# Altium footprint library ESE.PcbLib: 2 footprints
Each footprint in its own frame and in the unit in brackets; x right, y up, seen from the top. Pads: shape width x height; smd on the part's side, far side on the other; paste and mask are expansions set on the pad; w line width, h text height; cw(c..) or ccw(c..) is an arc to the next point about the centre after c.
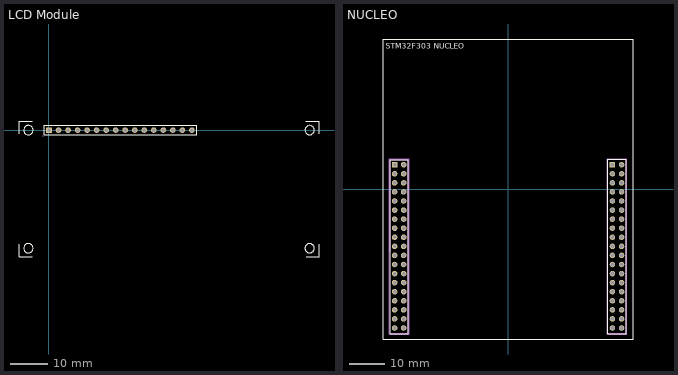
[diagram p0: the footprints below, top view; thin cyan lines are the x and y axes]

## LCD Module [mm] "16 Pin LCD Module w/ header pins, Female Header"
height 20
pads (16):
  rect 1.5x1.5 hole 0.9: 1(0,0)
  round 1.5 hole 0.9: 2(2.54,0) 3(5.08,0) 4(7.62,0) 5(10.16,0) 6(12.7,0) 7(15.24,0) 8(17.78,0) 9(20.32,0) 10(22.86,0) 11(25.4,0) 12(27.94,0) 13(30.48,0) 14(33.02,0) 15(35.56,0) 16(38.1,0)
Top Overlay:
  circle w0.254: c-5.5,0 r1.25
  circle w0.254: c69.5,0 r1.25
  circle w0.254: c69.5,-31.5 r1.25
  circle w0.254: c-5.5,-31.5 r1.25
  lines w0.127: -8,0 -8,2.4
  lines w0.2: -1.27,-1.27 39.37,-1.27 39.37,1.27 0.635,1.27 -1.27,1.27 -1.27,-1.27
  lines w0.254: -8,-30.4 -8,-33.8 -4.5,-33.8 ; -8,-1 -8,2.4 -4.5,2.4 ; 68.5,2.4 72,2.4 72,-1 ; 68.6,-33.8 72,-33.8 72,-30.4
Assembly Top:
  circle w0.254: c-1.6,-1.6 r0.1
3D body "LCD_NHD-0216K1Z-NSB-FBW-L v19.step": height 21.7, standoff -2.68, extent -8,-33.4 72,2.7

## NUCLEO [mm] "Low Cost Board Spacer, 2x19 Pins, Vertical, 2.54mm Pitch, Male"
height 28.245
pads (76):
  rect 1.55x1.55 hole 1.02: 1_1(-31.75,6.8) 1_2(29.25,6.8)
  round 1.55 hole 1.02: 2_1(-29.21,6.8) 2_2(31.79,6.8) 3_1(-31.75,4.26) 3_2(29.25,4.26) 4_1(-29.21,4.26) 4_2(31.79,4.26) 5_1(-31.75,1.72) 5_2(29.25,1.72) 6_1(-29.21,1.72) 6_2(31.79,1.72) 7_1(-31.75,-0.82) 7_2(29.25,-0.82) 8_1(-29.21,-0.82) 8_2(31.79,-0.82) 9_1(-31.75,-3.36) 9_2(29.25,-3.36) 10_1(-29.21,-3.36) 10_2(31.79,-3.36) 11_1(-31.75,-5.9) 11_2(29.25,-5.9) 12_1(-29.21,-5.9) 12_2(31.79,-5.9) 13_1(-31.75,-8.44) 13_2(29.25,-8.44) 14_1(-29.21,-8.44) 14_2(31.79,-8.44) 15_1(-31.75,-10.98) 15_2(29.25,-10.98) 16_1(-29.21,-10.98) 16_2(31.79,-10.98) 17_1(-31.75,-13.52) 17_2(29.25,-13.52) 18_1(-29.21,-13.52) 18_2(31.79,-13.52) 19_1(-31.75,-16.06) 19_2(29.25,-16.06) 20_1(-29.21,-16.06) 20_2(31.79,-16.06) 21_1(-31.75,-18.6) 21_2(29.25,-18.6) 22_1(-29.21,-18.6) 22_2(31.79,-18.6) 23_1(-31.75,-21.14) 23_2(29.25,-21.14) 24_1(-29.21,-21.14) 24_2(31.79,-21.14) 25_1(-31.75,-23.68) 25_2(29.25,-23.68) 26_1(-29.21,-23.68) 26_2(31.79,-23.68) 27_1(-31.75,-26.22) 27_2(29.25,-26.22) 28_1(-29.21,-26.22) 28_2(31.79,-26.22) 29_1(-31.75,-28.76) 29_2(29.25,-28.76) 30_1(-29.21,-28.76) 30_2(31.79,-28.76) 31_1(-31.75,-31.3) 31_2(29.25,-31.3) 32_1(-29.21,-31.3) 32_2(31.79,-31.3) 33_1(-31.75,-33.84) 33_2(29.25,-33.84) 34_1(-29.21,-33.84) 34_2(31.79,-33.84) 35_1(-31.75,-36.38) 35_2(29.25,-36.38) 36_1(-29.21,-36.38) 36_2(31.79,-36.38) 37_1(-31.75,-38.92) 37_2(29.25,-38.92) 38_1(-29.21,-38.92) 38_2(31.79,-38.92)
Top Overlay:
  lines w0.127: -35,-42 -35,42 35,42 35,-42 -35,-42
  lines w0.2: -33.02,-40.49 -33.02,8.26 -27.94,8.26 -27.94,-40.49 -33.02,-40.49 ; 27.98,-40.49 33.06,-40.49 33.06,8.26 27.98,8.26 27.98,-40.49
  text "STM32F303 NUCLEO" at -34.25,39.25 h1.52
tTest:
  lines w0.1: -33.02,-40.45 -27.94,-40.45 ; -33.02,-17.521 -33.02,8.26 -27.94,8.26 ; 27.98,-40.45 33.06,-40.45 ; 27.98,-17.521 27.98,8.26 33.06,8.26
  lines w0.127: -27.94,-40.49 -27.94,8.26 ; 33.06,-40.49 33.06,8.26
Mechanical 15:
  lines w0.05: -33.245,-40.7 -33.245,8.485 -27.715,8.485 -27.715,-40.7 -33.245,-40.7 ; 27.755,-40.7 33.285,-40.7 33.285,8.485 27.755,8.485 27.755,-40.7
3D body "Nucleo.step": height 20.1, standoff 1.35, extent -35,-43.79 35,38.71
3D body "38-PIN-Female-Header.step": height 8.7, standoff -3.55, extent -33,-40.6 -27.9,8.4
3D body "38-PIN-Female-Header.step": height 8.7, standoff -3.55, extent 28,-40.6 33.1,8.4